# EAGLE library part MP3213DH (library ASME2020_parts)
3.5A Boost Converter Regulator
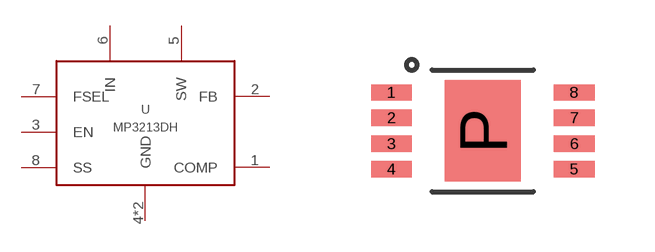
[diagram p1: symbol with the pads of 8-TSSOP; footprint 8-TSSOP]

Designator prefix -

## MP3213DH  [8-TSSOP]
1  COMP
2  FB
3  EN
4  GND
5  SW
6  IN
7  FSEL
8  SS
P  GND

## Footprint 8-TSSOP (pad centres in mm)
smd 1.016 x 0.406: 1 -2.286,0.96; 2 -2.286,0.325; 3 -2.286,-0.325; 4 -2.286,-0.96; 5 2.286,-0.96; 6 2.286,-0.325; 7 2.286,0.325; 8 2.286,0.96
smd 1.905 x 2.54: P 0,0